# Altium schematic symbol library Unused Parts.SchLib: 13 symbols
Pins are listed as number, name and electrical type; pins without a type are passive.

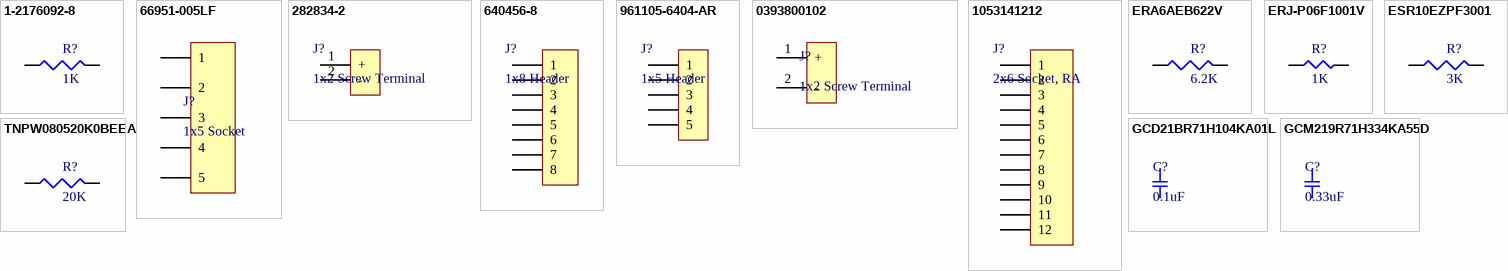
[diagram p0: symbols 1-2176092-8 to TNPW080520K0BEEA]

## 1-2176092-8
designator R?, comment 1K
RES SMD 1K OHM 0.1% 1/4W 0805; Manufacturer: TE Connectivity; Manufacturer Part Number: 1-2176092-8; Resistance: 1kR; Max Power Dissipation: 250mW; Temperature Coefficient: 25ppm/°C; Supplier 1: Digi-Key; Supplier Part Number 1: A110543CT-ND; Stock 1: 15357; Pricing 1: 1 = 0.53000, 10 = 0.39200, 100 = 0.22860 (USD); RoHS: Yes; Case/Package: 0805; Case Code (Metric): 2012; Case Code (Imperial): 0805; Min Operating Temperature: -55°C; Max Operating Temperature: 155°C; Package Quantity: 1000; Packaging: Tape and Reel; Tolerance: 0.1%; Composition: Thin Film; Number of Terminations: 2; Length: 0.079inch; Height: 0.026inch; Width: 0.049inch; Lead Free: Lead Free; ComponentLink1URL: http://www.te.com/commerce/DocumentDelivery/DDEController?Action=srchrtrv&DocNm=1773272&DocType=DS&DocLang=English&src-supplier=Digi-Key; ComponentLink1Description: http://www.te.com/commerce/DocumentDelivery/DDEController?Action=srchrtrv&DocNm=1773272&DocType=DS&DocLang=English&src-supplier=Digi-Key; ComponentLink2URL: https://www.te.com/commerce/DocumentDelivery/DDEController?Action=srchrtrv&DocNm=1773272&DocType=DS&DocLang=English&src-supplier=Digi-Key; ComponentLink2Description: https://www.te.com/commerce/DocumentDelivery/DDEController?Action=srchrtrv&DocNm=1773272&DocType=DS&DocLang=English&src-supplier=Digi-Key; Category: Resistors
pins: 1, 2

## 66951-005LF
designator J?, comment 1x5 Socket
CONN RCPT 5POS .100 SGL STR PCB; Manufacturer: Amphenol FCI; Manufacturer Part Number: 66951-005LF; Contact Resistance: 15mR; Current Rating: 3A; Voltage Rating: 1.25kV; Number of Positions: 5; Insulation Resistance: 5GR; Connector Type: Receptacle,Socket; Pitch: 2.54mm; Supplier 1: Digi-Key; Supplier Part Number 1: 609-2235-ND; Stock 1: 1046; Pricing 1: 1 = 2.19000, 46 = 1.86652, 138 = 1.70413, 506 = 1.42012, 1012 = 1.21725, 5014 = 1.07930 (USD); RoHS: Yes; Mount: Through Hole; Contact Plating: Gold; Contact Material: Brass,Bronze; Color: Black; Housing Color: Black; Housing Material: Thermoplastic; Min Operating Temperature: -65°C; Max Operating Temperature: 125°C; Package Quantity: 46; Packaging: Rail/Tube; Number of Rows: 1; Contact Gender: Female; Termination: Solder; Max Voltage Rating (AC): 1.25kV; Number of Contacts: 5; Orientation: Straight; Length: 12.7mm; Depth: 5.08mm; Width: 5.08mm; Radiation Hardening: No; Lead Free: Lead Free; Flammability Rating: UL94 V-0; ComponentLink1URL: http://portal.fciconnect.com/Comergent/fci/drawing/66951.pdf?src-supplier=Avnet; ComponentLink1Description: http://portal.fciconnect.com/Comergent/fci/drawing/66951.pdf?src-supplier=Avnet; ComponentLink2URL: http://portal.fciconnect.com/Comergent//fci/drawing/66951.pdf?src-supplier=Digi-Key; ComponentLink2Description: http://portal.fciconnect.com/Comergent//fci/drawing/66951.pdf?src-supplier=Digi-Key; Category: Connectors
pins: 1, 2, 3, 4, 5

## 282834-2
designator J?, comment 1x2 Screw Terminal
TERM BLK 2P SIDE ENT 2.54MM PCB; Manufacturer: TE Connectivity; Manufacturer Part Number: 282834-2; Plating: Brass,Steel; Max Voltage Rating (AC): 150V; Number of Poles: 2; Gender: Male; Current Rating: 10A; Number of Levels: 1; Connector Type: Receptacle; Closed End: No (Without); Screwless Terminal Block: Yes (With); Wire Gauge (Max): 30AWG; Thread Size: M1.6; Tail Length: 3.4mm; Approvals: UL; Supplier 1: Digi-Key; Supplier Part Number 1: A98333-ND; Stock 1: 33326; Pricing 1: 1 = 0.88000, 10 = 0.62000, 25 = 0.57840, 50 = 0.52500, 100 = 0.52280, 250 = 0.44144, 500 = 0.41822, 1000 = 0.37175, 5000 = 0.34852 (USD); RoHS: Yes; Mount: Through Hole; Contact Plating: Tin; Contact Material: Brass; Color: Green; Material: Nylon; Housing Color: Green; Housing Material: Polyamide; Min Operating Temperature: -40°C; Max Operating Temperature: 105°C; Number of Rows: 1; Voltage Rating: 150V; Package Quantity: 300; Packaging: Bulk; Number of Positions: 2; Termination: Solder; Number of Positions Per Level: 2; Current: 10A; Voltage: 150V; Max Supply Voltage (AC): 150V; Number of Contacts: 2; Number of Circuits: 2; Orientation: Straight; Max Current Rating: 10A; Interlock: No (Without); Screw Flange: No (Without); Side Stackable: Yes (With); Length: 5.54mm; Wire Gauge (Min): 30AWG; Width: 6.5mm; Wire/Cable Gauge: 30AWG; Pitch: 2.54mm; Depth: 6.5mm; Radiation Hardening: No; REACH SVHC: Unknown; ELV: Compliant; Lead Free: Lead Free; Flammability Rating: UL94 V-0; ComponentLink1URL: https://www.alliedelec.com/m/d/020b790adaa0bc8636bbfa0190e2b719.pdf?src-supplier=Allied+Electronics; ComponentLink1Description: https://www.alliedelec.com/m/d/020b790adaa0bc8636bbfa0190e2b719.pdf?src-supplier=Allied+Electronics; ComponentLink2URL: https://www.verical.com/server-webapp/html/getDatasheet?partID=155864&src-supplier=Verical; ComponentLink2Description: https://www.verical.com/server-webapp/html/getDatasheet?partID=155864&src-supplier=Verical; ComponentLink3URL: http://www.te.com/commerce/DocumentDelivery/DDEController?Action=showdoc&DocId=Catalog+Section%7F1308389_EUROSTYLE_TERMINAL_BLOCKS%7F0607%7Fpdf%7FEnglish%7FENG_CS_1308389_EUROSTYLE_TERMINAL_BLOCKS_0607.pdf&src-supplier=Avnet; ComponentLink3Description: http://www.te.com/commerce/DocumentDelivery/DDEController?Action=showdoc&DocId=Catalog+Section%7F1308389_EUROSTYLE_TERMINAL_BLOCKS%7F0607%7Fpdf%7FEnglish%7FENG_CS_1308389_EUROSTYLE_TERMINAL_BLOCKS_0607.pdf&src-supplier=Avnet; ComponentLink4URL: http://www1.futureelectronics.com/doc/TE%20CONNECTIVITY/282834-2.pdf?src-supplier=Future+Electronics; ComponentLink4Description: http://www1.futureelectronics.com/doc/TE%20CONNECTIVITY/282834-2.pdf?src-supplier=Future+Electronics; ComponentLink5URL: https://www.te.com/commerce/DocumentDelivery/DDEController?Action=srchrtrv&DocNm=1308389_EUROSTYLE_TERMINAL_BLOCKS&DocType=CS&DocLang=English&src-supplier=Digi-Key; ComponentLink5Description: https://www.te.com/commerce/DocumentDelivery/DDEController?Action=srchrtrv&DocNm=1308389_EUROSTYLE_TERMINAL_BLOCKS&DocType=CS&DocLang=English&src-supplier=Digi-Key; ComponentLink6URL: http://www.te.com/commerce/DocumentDelivery/DDEController?Action=showdoc&DocId=Catalog+Section%7F1308389_EUROSTYLE_TERMINAL_BLOCKS%7F0607%7Fpdf%7FEnglish%7FENG_CS_1308389_EUROSTYLE_TERMINAL_BLOCKS_0607.pdf&src-supplier=Avnet+Europe; ComponentLink6Description: http://www.te.com/commerce/DocumentDelivery/DDEController?Action=showdoc&DocId=Catalog+Section%7F1308389_EUROSTYLE_TERMINAL_BLOCKS%7F0607%7Fpdf%7FEnglish%7FENG_CS_1308389_EUROSTYLE_TERMINAL_BLOCKS_0607.pdf&src-supplier=Avnet+Europe; ComponentLink7URL: http://www.onlinecomponents.com/productFiles/mf-AMP/eng_cs_1308389_eurostyle_terminal_blocks_0607.pdf?src-supplier=Onlinecomponents.com; ComponentLink7Description: http://www.onlinecomponents.com/productFiles/mf-AMP/eng_cs_1308389_eurostyle_terminal_blocks_0607.pdf?src-supplier=Onlinecomponents.com; Category: Connectors
pins: 1 +, 2 -

## 640456-8
designator J?, comment 1x8 Header
CONN HEADER VERT 8POS 2.54MM; Manufacturer: TE Connectivity; Manufacturer Part Number: 640456-8; Underplate Material: Nickel; Contact Current Rating: 5A; Max Voltage Rating (AC): 250V; Number of Positions: 8; Connector Type: Header,Pin,Plug; Backwall/Post Interruptions: No (Without); Connector System: Wire-to-Board; Plating Thickness: 3.81um; PCB Mount Retention: Without; Contact Resistance: 6mR; PCB Mounting Orientation: Vertical; Contact Post Length: 3.56mm; PCB Thickness: 0.063inch; Approvals: CSA; Supplier 1: Digi-Key; Supplier Part Number 1: A1924-ND; Stock 1: 106390; Pricing 1: 1 = 0.330000, 10 = 0.315000, 100 = 0.220300, 500 = 0.188800, 1000 = 0.157330, 5000 = 0.134850, 10000 = 0.125860 (USD); RoHS: Yes; Mount: Through Hole; Contact Material: Copper Alloy; Contact Plating: Tin; Color: Beige,Natural,White; Housing Color: Natural; Housing Material: Polyester; Contact Shape: Square; Min Operating Temperature: -67°C; Max Operating Temperature: 221°C; Packaging: Bulk; Package Quantity: 2000; Termination: Solder; Number of Rows: 1; Fastening Type: Friction; Contact Gender: Male; Number of Contacts: 8; Contact Retention: No (Without); Mating Alignment: No (Without); Mating Retention: No (Without); PCB Mount Alignment: No (Without); Sealable: No (Without); Strain Relief: No (Without); Orientation: Straight; Current Rating: 5A; Voltage Rating: 250V; Length: 20.32mm; Height: 7.87mm; Pitch: 2.54mm; Depth: 5.72mm; Contact Mating Length: 0.295inch; Tail Length: 3.56mm; Radiation Hardening: No; Flammability Rating: UL94 V-0; REACH SVHC: Unknown; ComponentLink1URL: http://www.farnell.com/datasheets/2007116.pdf?src-supplier=Farnell; ComponentLink1Description: http://www.farnell.com/datasheets/2007116.pdf?src-supplier=Farnell; ComponentLink2URL: http://www.jameco.com/Jameco/Products/ProdDS/613991.pdf?src-supplier=Jameco; ComponentLink2Description: http://www.jameco.com/Jameco/Products/ProdDS/613991.pdf?src-supplier=Jameco; ComponentLink3URL: https://www.alliedelec.com/m/d/6553eb3359c48720310f328598bbd997.pdf?src-supplier=Allied+Electronics; ComponentLink3Description: https://www.alliedelec.com/m/d/6553eb3359c48720310f328598bbd997.pdf?src-supplier=Allied+Electronics; ComponentLink4URL: http://www.te.com/commerce/DocumentDelivery/DDEController?Action=showdoc&DocId=Data+Sheet%7F82056_MTA%7F0608%7Fpdf%7FEnglish%7FENG_DS_82056_MTA_0608.pdf%7F640456-8&src-supplier=Future+Electronics; ComponentLink4Description: http://www.te.com/commerce/DocumentDelivery/DDEController?Action=showdoc&DocId=Data+Sheet%7F82056_MTA%7F0608%7Fpdf%7FEnglish%7FENG_DS_82056_MTA_0608.pdf%7F640456-8&src-supplier=Future+Electronics; ComponentLink5URL: http://www.te.com/commerce/DocumentDelivery/DDEController?Action=showdoc&DocId=Data+Sheet%7F82056_MTA%7F0608%7Fpdf%7FEnglish%7FENG_DS_82056_MTA_0608.pdf&src-supplier=Avnet; ComponentLink5Description: http://www.te.com/commerce/DocumentDelivery/DDEController?Action=showdoc&DocId=Data+Sheet%7F82056_MTA%7F0608%7Fpdf%7FEnglish%7FENG_DS_82056_MTA_0608.pdf&src-supplier=Avnet; ComponentLink6URL: http://www.te.com/commerce/DocumentDelivery/DDEController?Action=showdoc&DocId=Data+Sheet%7F82056_MTA%7F0608%7Fpdf%7FEnglish%7FENG_DS_82056_MTA_0608.pdf&src-supplier=Avnet+Europe; ComponentLink6Description: http://www.te.com/commerce/DocumentDelivery/DDEController?Action=showdoc&DocId=Data+Sheet%7F82056_MTA%7F0608%7Fpdf%7FEnglish%7FENG_DS_82056_MTA_0608.pdf&src-supplier=Avnet+Europe; ComponentLink7URL: https://www.distrelec.biz/Web/Downloads/43/01/04384301.pdf?mime=application%2Fpdf&src-supplier=Distrelec; ComponentLink7Description: https://www.distrelec.biz/Web/Downloads/43/01/04384301.pdf?mime=application%2Fpdf&src-supplier=Distrelec; ComponentLink8URL: https://www.te.com/commerce/DocumentDelivery/DDEController?Action=srchrtrv&DocNm=640456&DocType=Customer+Drawing&DocLang=English&src-supplier=Digi-Key; ComponentLink8Description: https://www.te.com/commerce/DocumentDelivery/DDEController?Action=srchrtrv&DocNm=640456&DocType=Customer+Drawing&DocLang=English&src-supplier=Digi-Key; ComponentLink9URL: http://www.onlinecomponents.com/productFiles/mf-AMP/8852eng_ds_82056_mta_0608.pdf?src-supplier=Onlinecomponents.com; ComponentLink9Description: http://www.onlinecomponents.com/productFiles/mf-AMP/8852eng_ds_82056_mta_0608.pdf?src-supplier=Onlinecomponents.com; ComponentLink10URL: http://www.produktinfo.conrad.com/datenblaetter/1200000-1299999/001278345-da-01-en-STIFTLEISTE_GERADE_640456_8_.pdf?src-supplier=Conrad; ComponentLink10Description: http://www.produktinfo.conrad.com/datenblaetter/1200000-1299999/001278345-da-01-en-STIFTLEISTE_GERADE_640456_8_.pdf?src-supplier=Conrad; Category: Connectors
pins: 1, 2, 3, 4, 5, 6, 7, 8

## 961105-6404-AR
designator J?, comment 1x5 Header
CONN HEADER VERT SGL 5POS GOLD; Manufacturer: 3M; Manufacturer Part Number: 961105-6404-AR; Current Rating: 2A; Voltage Rating: 1kV; Number of Positions: 5; Gender: Male; Connector Type: Male Pin; Pitch: 2.54mm; Contact Post Length: 3.3mm; Supplier 1: Digi-Key; Supplier Part Number 1: 3M9457-05-ND; Stock 1: 3241; Pricing 1: 1 = 0.45000, 10 = 0.42000, 25 = 0.37800, 50 = 0.33600, 100 = 0.32200, 250 = 0.29400, 500 = 0.28000 (USD); RoHS: Yes; Mount: Through Hole; Contact Plating: Gold; Contact Material: Copper Alloy; Color: Black; Housing Material: Thermoplastic; Min Operating Temperature: -25°C; Max Operating Temperature: 105°C; Number of Rows: 1; Contact Gender: Male; Package Quantity: 3000; Packaging: Bulk; Termination: Through Hole; Number of Contacts: 5; Orientation: Straight; Contact Mating Length: 0.22inch; REACH SVHC: Unknown; ComponentLink1URL: http://multimedia.3m.com/mws/media/548112O/3mtm-pin-strip-header-ts2181.pdf?src-supplier=Digi-Key; ComponentLink1Description: http://multimedia.3m.com/mws/media/548112O/3mtm-pin-strip-header-ts2181.pdf?src-supplier=Digi-Key; ComponentLink2URL: http://www.farnell.com/datasheets/2043883.pdf?src-supplier=Element14; ComponentLink2Description: http://www.farnell.com/datasheets/2043883.pdf?src-supplier=Element14; ComponentLink3URL: https://www.alliedelec.com/m/d/80d174baa5292543a073c8ba004840bb.pdf?src-supplier=Allied+Electronics; ComponentLink3Description: https://www.alliedelec.com/m/d/80d174baa5292543a073c8ba004840bb.pdf?src-supplier=Allied+Electronics; Category: Connectors
pins: 1, 2, 3, 4, 5

## 0393800102
designator J?, comment 1x2 Screw Terminal
Conn Eurostyle Block 2 POS 6.35mm Solder ST Thru-Hole 30A/Contact Eurostyle™ Box; Manufacturer: Molex; Manufacturer Part Number: 0393800102; Plating: Nickel; Number of Levels: 1; Number of Positions Per Level: 2; Current: 30A; Voltage: 300V; Wire Gauge (Max): 30AWG; Wire Gauge (Min): 10AWG; Pitch: 0.25inch; Supplier 1: Digi-Key; Stock 1: 72; Pricing 1: 1 = 1.44000, 10 = 1.01500, 25 = 0.94640, 50 = 0.85880, 100 = 0.85500, 250 = 0.72200, 500 = 0.68400, 1000 = 0.60800, 5000 = 0.49400 (USD); RoHS: Yes; Mount: Through Hole; Contact Plating: Nickel,Tin; Contact Material: Copper Alloy; Color: Black; Housing Color: Black; Housing Material: Polyamide; Min Operating Temperature: -40°C; Max Operating Temperature: 105°C; Number of Rows: 1; Package Quantity: 720; Packaging: Bulk; Termination: Solder; Max Supply Voltage (AC): 300V; Max Voltage Rating (AC): 300V; Number of Contacts: 2; Orientation: Straight; Length: 13.3mm; Depth: 12.5mm; Radiation Hardening: No; ComponentLink1URL: https://www.verical.com/server-webapp/html/getDatasheet?partID=163620&src-supplier=Verical; ComponentLink1Description: https://www.verical.com/server-webapp/html/getDatasheet?partID=163620&src-supplier=Verical; ComponentLink2URL: http://www.molex.com/pdm_docs/sd/393800102_sd.pdf?src-supplier=Digi-Key; ComponentLink2Description: http://www.molex.com/pdm_docs/sd/393800102_sd.pdf?src-supplier=Digi-Key; ComponentLink3URL: http://www.molex.com/webdocs/datasheets/pdf/en-us/0393800102_TERMINAL_BLOCKS.pdf?src-supplier=Avnet; ComponentLink3Description: http://www.molex.com/webdocs/datasheets/pdf/en-us/0393800102_TERMINAL_BLOCKS.pdf?src-supplier=Avnet; Supplier Part Number 1: WM13944-ND; Category: Connectors
pins: 1 +, 2 -

## 1053141212
designator J?, comment 2x6 Socket, RA
Conn Header R/a 12POS 2.5MM; Manufacturer: Molex; Manufacturer Part Number: 1053141212; Supplier 1: Digi-Key; Supplier Part Number 1: WM15163-ND; Stock 1: 2162; Pricing 1: 1 = 2.69000, 10 = 2.58700, 102 = 2.15578, 510 = 1.83243, 1020 = 1.56295, 5100 = 1.40127 (USD); Category: Connectors
pins: 1, 2, 3, 4, 5, 6, 7, 8, 9, 10, 11, 12

## ERA6AEB622V
designator R?, comment 6.2K
RES SMD 6.2K OHM 0.1% 1/8W 0805; Manufacturer: Panasonic; Manufacturer Part Number: ERA6AEB622V; Resistance: 6.2kR; Power Rating: 125mW; Voltage Rating: 100V; Temperature Coefficient: 25ppm/°C; Supplier 1: Digi-Key; Supplier Part Number 1: P6.2KDACT-ND; Stock 1: 153387; Pricing 1: 1 = 0.36000, 10 = 0.30200, 100 = 0.11820, 1000 = 0.04948, 2500 = 0.04536 (USD); RoHS: Yes; Mount: Surface Mount; Case/Package: 0805; Number of Pins: 2; Case Code (Imperial): 0805; Case Code (Metric): 2012; Contact Plating: Tin; Min Operating Temperature: -55°C; Max Operating Temperature: 155°C; Packaging: Tape and Reel; Tolerance: 0.1%; Package Quantity: 1; Composition: Thin Film; Number of Terminations: 2; Military Standard: Not; Termination: Solder; Max Power Dissipation: 125mW; Voltage Rating (DC): 100V; Features: Automotive AEC-Q200; Length: 2mm; Height: 0.5mm; Width: 1.25mm; Depth: 1.25mm; Radiation Hardening: No; REACH SVHC: No SVHC; Lead Free: Lead Free; ComponentLink1URL: http://www.mouser.com/ds/2/315/AOA0000C237-1100991.pdf?src-supplier=Mouser; ComponentLink1Description: http://www.mouser.com/ds/2/315/AOA0000C237-1100991.pdf?src-supplier=Mouser; ComponentLink2URL: https://www.distrelec.biz/Web/Downloads/_t/ds/ERA_eng_tds.pdf?mime=application%2Fpdf&src-supplier=Distrelec; ComponentLink2Description: https://www.distrelec.biz/Web/Downloads/_t/ds/ERA_eng_tds.pdf?mime=application%2Fpdf&src-supplier=Distrelec; ComponentLink3URL: http://www.farnell.com/datasheets/485442.pdf?src-supplier=Farnell; ComponentLink3Description: http://www.farnell.com/datasheets/485442.pdf?src-supplier=Farnell; ComponentLink4URL: http://www.farnell.com/datasheets/2059650.pdf?src-supplier=Farnell; ComponentLink4Description: http://www.farnell.com/datasheets/2059650.pdf?src-supplier=Farnell; ComponentLink5URL: http://www.farnell.com/datasheets/485442.pdf?src-supplier=Element14; ComponentLink5Description: http://www.farnell.com/datasheets/485442.pdf?src-supplier=Element14; ComponentLink6URL: http://www.farnell.com/datasheets/2059650.pdf?src-supplier=Element14; ComponentLink6Description: http://www.farnell.com/datasheets/2059650.pdf?src-supplier=Element14; ComponentLink7URL: http://industrial.panasonic.com/www-data/pdf/AOA0000/AOA0000CE26.pdf?src-supplier=Avnet; ComponentLink7Description: http://industrial.panasonic.com/www-data/pdf/AOA0000/AOA0000CE26.pdf?src-supplier=Avnet; ComponentLink8URL: http://www.produktinfo.conrad.com/datenblaetter/450000-474999/453275-da-01-en-WIDERSTAND_0805_ERA.pdf?src-supplier=Conrad; ComponentLink8Description: http://www.produktinfo.conrad.com/datenblaetter/450000-474999/453275-da-01-en-WIDERSTAND_0805_ERA.pdf?src-supplier=Conrad; Category: Resistors
pins: 1, 2

## ERJ-P06F1001V
designator R?, comment 1K
PANASONIC   ERJP06F1001V   RESISTOR, ERJP, 1 KOHM, 0805 0.5W, 1%; Manufacturer Part Number: ERJ-P06F1001V; Resistance: 1kR; Power Rating: 500mW; Voltage Rating: 150V; Temperature Coefficient: 100ppm/°C; Supplier 1: Digi-Key; Supplier Part Number 1: P16058CT-ND; Manufacturer: Panasonic; Stock 1: 657310; Pricing 1: 1 = 0.20000, 10 = 0.16700, 100 = 0.06520, 1000 = 0.02730, 2500 = 0.02502 (USD); RoHS: Yes; Mount: Surface Mount; Case/Package: 0805; Number of Pins: 2; Case Code (Imperial): 0805; Case Code (Metric): 2012; Contact Plating: Tin; Min Operating Temperature: -55°C; Max Operating Temperature: 155°C; Tolerance: 1%; Packaging: Tape and Reel; Package Quantity: 5000; Composition: Thick Film; Military Standard: Not; Voltage Rating (DC): 150V; Termination: Tab; Length: 2mm; Height: 0.6mm; Width: 1.2mm; Depth: 1.25mm; Radiation Hardening: No; REACH SVHC: No SVHC; ComponentLink1URL: https://datasheet.ciiva.com/11812/0900766b812cb812-11812402.pdf?src-supplier=RSComponents; ComponentLink1Description: https://datasheet.ciiva.com/11812/0900766b812cb812-11812402.pdf?src-supplier=RSComponents; ComponentLink2URL: https://datasheet.ciiva.com/30056/aoa0000ce4-30056581.pdf?src-supplier=Onlinecomponents.com; ComponentLink2Description: https://datasheet.ciiva.com/30056/aoa0000ce4-30056581.pdf?src-supplier=Onlinecomponents.com; ComponentLink3URL: https://datasheet.ciiva.com/7942/1801181-7942439.pdf?src-supplier=Element14; ComponentLink3Description: https://datasheet.ciiva.com/7942/1801181-7942439.pdf?src-supplier=Element14; ComponentLink4URL: https://datasheet.ciiva.com/17215/aoa0000ce4-17215335.pdf?src-supplier=Avnet+Europe; ComponentLink4Description: https://datasheet.ciiva.com/17215/aoa0000ce4-17215335.pdf?src-supplier=Avnet+Europe; ComponentLink5URL: https://datasheet.ciiva.com/7942/1801181-7942440.pdf?src-supplier=Element14; ComponentLink5Description: https://datasheet.ciiva.com/7942/1801181-7942440.pdf?src-supplier=Element14; ComponentLink6URL: https://datasheet.ciiva.com/25795/1801181-25795160.pdf?src-supplier=Farnell; ComponentLink6Description: https://datasheet.ciiva.com/25795/1801181-25795160.pdf?src-supplier=Farnell; ComponentLink7URL: https://datasheet.ciiva.com/24024/aoa0000ce4-64075-24024393.pdf?src-supplier=Mouser; ComponentLink7Description: https://datasheet.ciiva.com/24024/aoa0000ce4-64075-24024393.pdf?src-supplier=Mouser; ComponentLink8URL: https://datasheet.ciiva.com/48426/erjp-series-eng-tds-48426778.pdf?src-supplier=Distrelec; ComponentLink8Description: https://datasheet.ciiva.com/48426/erjp-series-eng-tds-48426778.pdf?src-supplier=Distrelec; ComponentLink9URL: https://datasheet.ciiva.com/22783/1801181-22783836.pdf?src-supplier=Farnell; ComponentLink9Description: https://datasheet.ciiva.com/22783/1801181-22783836.pdf?src-supplier=Farnell; Category: Resistors
pins: 1, 2

## ESR10EZPF3001
designator R?, comment 3K
RES SMD 3K OHM 1% 0.4W 0805; Manufacturer: Rohm; Manufacturer Part Number: ESR10EZPF3001; Resistance: 3kR; Max Power Dissipation: 400mW; Temperature Coefficient: 100ppm/°C; Supplier 1: Digi-Key; Supplier Part Number 1: RHM3.00KAECT-ND; Stock 1: 1040; Pricing 1: 1 = 0.17000, 10 = 0.14600, 100 = 0.05720, 1000 = 0.02396, 2500 = 0.02196 (USD); RoHS: Yes; Case/Package: 0805; Case Code (Metric): 2012; Case Code (Imperial): 0805; Min Operating Temperature: -55°C; Max Operating Temperature: 155°C; Package Quantity: 1; Tolerance: 1%; Packaging: Tape and Reel; Composition: Thick Film; Number of Terminations: 2; Features: Automotive AEC-Q200; Length: 0.079inch; Height: 0.026inch; Width: 0.049inch; ComponentLink1URL: http://www.rohm.com/web/global/datasheet/ESR01MZPF/esr-e?src-supplier=Digi-Key; ComponentLink1Description: http://www.rohm.com/web/global/datasheet/ESR01MZPF/esr-e?src-supplier=Digi-Key; ComponentLink2URL: https://www.rohm.com/datasheet/ESR01MZPF/esr-e?src-supplier=Digi-Key; ComponentLink2Description: https://www.rohm.com/datasheet/ESR01MZPF/esr-e?src-supplier=Digi-Key; Category: Resistors
pins: 1, 2

## GCD21BR71H104KA01L
designator C?, comment 0.1uF
CAP CER 0.1UF 50V X7R 0805; Manufacturer: Murata; Manufacturer Part Number: GCD21BR71H104KA01L; Capacitance: 100nF; Tolerance: 10%; Supplier 1: Digi-Key; Supplier Part Number 1: 490-11955-1-ND; Stock 1: 6072; Pricing 1: 1 = 0.26000, 10 = 0.17700, 100 = 0.10010, 500 = 0.07068, 1000 = 0.06185 (USD); RoHS: Yes; Mount: Surface Mount; Case/Package: 0805; Weight: 0.000335oz; Case Code (Metric): 2012; Case Code (Imperial): 0805; Min Operating Temperature: -55°C; Max Operating Temperature: 125°C; Package Quantity: 3000; Packaging: Tape and Reel; Voltage Rating: 50V; Dielectric: X7R; Termination: SMD/SMT; Voltage Rating (DC): 50V; Length: 2mm; Height: 1.25mm; Width: 0.049inch; Thickness: 0.049inch; Depth: 1.25mm; Ratings: AEC-Q200; ComponentLink1URL: https://datasheet.ciiva.com/29537/c03e-29537701.pdf?src-supplier=Digi-Key; ComponentLink1Description: https://datasheet.ciiva.com/29537/c03e-29537701.pdf?src-supplier=Digi-Key; Category: Capacitors
pins: 1, 2

## GCM219R71H334KA55D
designator C?, comment 0.33uF
Multilayer Ceramic Capacitors MLCC - SMD/SMT 0.33uF 50Volts X7R 0.1; Manufacturer: Murata; Manufacturer Part Number: GCM219R71H334KA55D; Capacitance: 330nF; Tolerance: 10%; Voltage Rating: 50V; Supplier 1: Digi-Key; Supplier Part Number 1: 490-8045-1-ND; Stock 1: 379140; Pricing 1: 1 = 0.49000, 10 = 0.34900, 100 = 0.22980, 500 = 0.17020, 1000 = 0.14467 (USD); RoHS: Yes; Mount: Surface Mount; Case/Package: 0805; Case Code (Metric): 2012; Case Code (Imperial): 0805; Min Operating Temperature: -55°C; Max Operating Temperature: 125°C; Packaging: Tape and Reel; Package Quantity: 4000; Dielectric: X7R; Termination: SMD/SMT; Voltage Rating (DC): 50V; Length: 2mm; Height: 0.85mm; Width: 0.049inch; Thickness: 0.037inch; Depth: 1.25mm; Ratings: AEC-Q200; Radiation Hardening: No; Lead Free: Lead Free; ComponentLink1URL: https://datasheet.ciiva.com/11619/product-11619093.pdf?src-supplier=Avnet; ComponentLink1Description: https://datasheet.ciiva.com/11619/product-11619093.pdf?src-supplier=Avnet; ComponentLink2URL: https://datasheet.ciiva.com/17453/product-17453529.pdf?src-supplier=Avnet+Europe; ComponentLink2Description: https://datasheet.ciiva.com/17453/product-17453529.pdf?src-supplier=Avnet+Europe; Category: Capacitors
pins: 1, 2

## TNPW080520K0BEEA
designator R?, comment 20K
RES 20K OHM 0.1% 1/5W 0805; Manufacturer: Vishay Dale; Manufacturer Part Number: TNPW080520K0BEEA; Tolerance: 1%; Resistance: 20kR; Power Rating: 125mW; Voltage Rating (DC): 100V; Temperature Coefficient: 25ppm/°C; Supplier 1: Digi-Key; Supplier Part Number 1: TNP20.0KABCT-ND; Stock 1: 23647; Pricing 1: 1 = 0.63000, 10 = 0.52100, 100 = 0.35010, 1000 = 0.20576 (USD); RoHS: Yes; Mount: Surface Mount; Case/Package: 0805; Number of Pins: 2; Case Code (Imperial): 0805; Case Code (Metric): 2012; Contact Plating: Tin; Min Operating Temperature: -55°C; Max Operating Temperature: 125°C; Packaging: Tape and Reel; Package Quantity: 5000; Voltage Rating: 100V; Termination: SMD/SMT; Composition: Thin Film; Military Standard: Not; Length: 2mm; Height: 0.45mm; Width: 1.25mm; Depth: 1.25mm; Radiation Hardening: No; Lead Free: Lead Free; REACH SVHC: Unknown; ComponentLink1URL: https://www.alliedelec.com/m/d/50d2ac1c48d1d3072c857498c4cadcee.pdf?src-supplier=Allied+Electronics; ComponentLink1Description: https://www.alliedelec.com/m/d/50d2ac1c48d1d3072c857498c4cadcee.pdf?src-supplier=Allied+Electronics; ComponentLink2URL: http://www.vishay.com/docs/28758/tnpw_e3.pdf?src-supplier=Avnet; ComponentLink2Description: http://www.vishay.com/docs/28758/tnpw_e3.pdf?src-supplier=Avnet; ComponentLink3URL: http://www.farnell.com/datasheets/2049119.pdf?src-supplier=Element14; ComponentLink3Description: http://www.farnell.com/datasheets/2049119.pdf?src-supplier=Element14; ComponentLink4URL: http://www.vishay.com/docs/28758/tnpw_e3.pdf?src-supplier=Future+Electronics; ComponentLink4Description: http://www.vishay.com/docs/28758/tnpw_e3.pdf?src-supplier=Future+Electronics; ComponentLink5URL: https://www.verical.com/server-webapp/html/getDatasheet?partID=91834&src-supplier=Verical; ComponentLink5Description: https://www.verical.com/server-webapp/html/getDatasheet?partID=91834&src-supplier=Verical; ComponentLink6URL: http://www.farnell.com/datasheets/1912606.pdf?src-supplier=Element14; ComponentLink6Description: http://www.farnell.com/datasheets/1912606.pdf?src-supplier=Element14; Category: Resistors
pins: 1, 2